# EAGLE library part RASPI_B+_SPANNUNGSTEILER (library HElicopterLib)
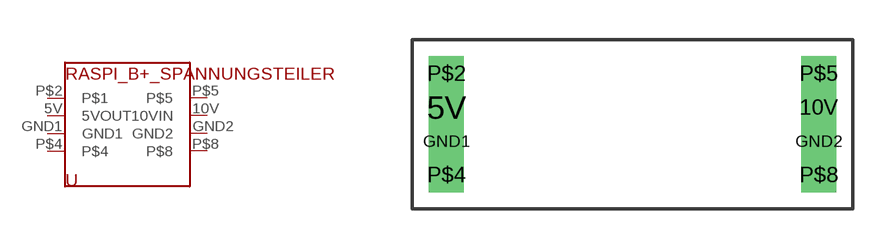
[diagram p7: symbol with the pads of RASPI_B+_SPANNUNGSTEILER; footprint RASPI_B+_SPANNUNGSTEILER]

Designator prefix -

## RASPI_B+_SPANNUNGSTEILER  [RASPI_B+_SPANNUNGSTEILER]
5V  5VOUT
10V  10VIN
GND1  GND1
GND2  GND2
P$2  P$1
P$4  P$4
P$5  P$5
P$8  P$8

## Footprint RASPI_B+_SPANNUNGSTEILER (pad centres in mm)
drill 0.8 square: 5V -7.62,0; 10V 6.35,0; GND1 -7.62,-1.27; GND2 6.35,-1.27; P$2 -7.62,1.27; P$4 -7.62,-2.54; P$5 6.35,1.27; P$8 6.35,-2.54